# Altium schematic symbol library kmilo17pet-LT_PMIC_LT.SchLib: 2252 symbols (part 40 of 124)
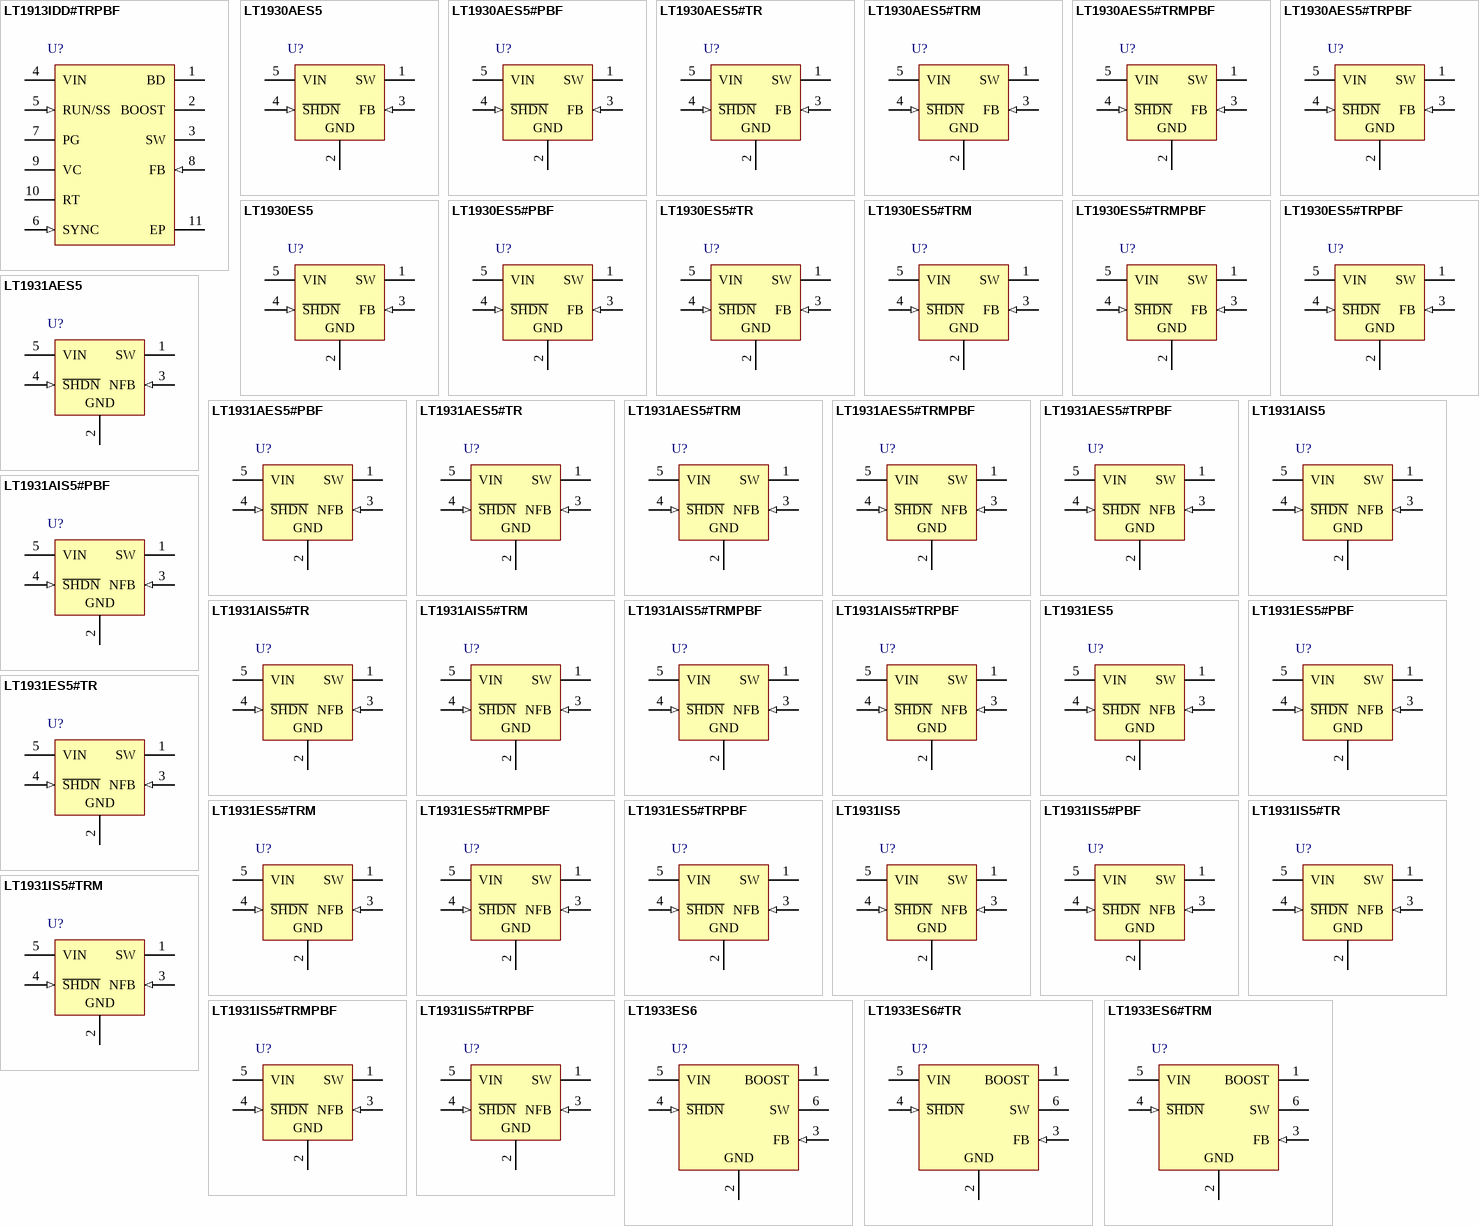
[diagram p110: symbols LT1913IDD#TRPBF to LT1933ES6#TRM]

## LT1930AES5#TRMPBF
designator U?
1 A, 2.2 MHz, Step-Up DC/DC Converter, 5-pin SOT23 (S5-5), -40 to 85 degC, Pb-Free, Mini Tape and Reel; Manufacturer: Linear Technology; PartNumber: LT1930AES5#TRMPBF; Number of Outputs: 1; PackageReference: S5-5; PackageDescription: 5-Pin Plastic TSOT-23, Body 1.63 x 2.90 mm, Pitch 0.95 mm; Supplier 1: Digi-Key; Supplier Part Number 1: LT1930AES5#TRMPBFTR-ND; RoHS: TRUE
footprint LT-S5-5-TSOT-23_N (SOT23, 5-Leads, Body 2.90x1.63mm, Pitch 0.95mm, IPC Medium Density)
footprint LT-S5-5-TSOT-23_L (SOT23, 5-Leads, Body 2.90x1.63mm, Pitch 0.95mm, IPC High Density)
footprint LT-S5-5-TSOT-23_M (SOT23, 5-Leads, Body 2.90x1.63mm, Pitch 0.95mm, IPC Low Density)
pins: 1 SW (power) "Switch Pin. Connect inductor/diode here. Minimize trace at this pin to reduce EMI.", 2 GND (power) "Ground Pin. Tie directly to local ground plane.", 3 FB (in) "Feedback Pin.", 4 ~{SHDN} (in) "Shutdown Pin.", 5 VIN (power) "Input Supply Pin. Must be locally bypassed."

## LT1930AES5#TRPBF
designator U?
1 A, 2.2 MHz, Step-Up DC/DC Converter, 5-pin SOT23 (S5-5), -40 to 85 degC, Pb-Free, Tape and Reel; Manufacturer: Linear Technology; PartNumber: LT1930AES5#TRPBF; Number of Outputs: 1; PackageReference: S5-5; PackageDescription: 5-Pin Plastic TSOT-23, Body 1.63 x 2.90 mm, Pitch 0.95 mm; Supplier 1: Digi-Key; Supplier Part Number 1: LT1930AES5#TRPBF-ND; RoHS: TRUE
footprint LT-S5-5-TSOT-23_N (SOT23, 5-Leads, Body 2.90x1.63mm, Pitch 0.95mm, IPC Medium Density)
footprint LT-S5-5-TSOT-23_L (SOT23, 5-Leads, Body 2.90x1.63mm, Pitch 0.95mm, IPC High Density)
footprint LT-S5-5-TSOT-23_M (SOT23, 5-Leads, Body 2.90x1.63mm, Pitch 0.95mm, IPC Low Density)
pins: 1 SW (power) "Switch Pin. Connect inductor/diode here. Minimize trace at this pin to reduce EMI.", 2 GND (power) "Ground Pin. Tie directly to local ground plane.", 3 FB (in) "Feedback Pin.", 4 ~{SHDN} (in) "Shutdown Pin.", 5 VIN (power) "Input Supply Pin. Must be locally bypassed."

## LT1930ES5
designator U?
1 A, 1.2 MHz, Step-Up DC/DC Converter, 5-pin SOT23 (S5-5), -40 to 85 degC; Manufacturer: Linear Technology; PartNumber: LT1930ES5; Number of Outputs: 1; PackageReference: S5-5; PackageDescription: 5-Pin Plastic TSOT-23, Body 1.63 x 2.90 mm, Pitch 0.95 mm; RoHS: FALSE
footprint LT-S5-5-TSOT-23_N (SOT23, 5-Leads, Body 2.90x1.63mm, Pitch 0.95mm, IPC Medium Density)
footprint LT-S5-5-TSOT-23_L (SOT23, 5-Leads, Body 2.90x1.63mm, Pitch 0.95mm, IPC High Density)
footprint LT-S5-5-TSOT-23_M (SOT23, 5-Leads, Body 2.90x1.63mm, Pitch 0.95mm, IPC Low Density)
pins: 1 SW (power) "Switch Pin. Connect inductor/diode here. Minimize trace at this pin to reduce EMI.", 2 GND (power) "Ground Pin. Tie directly to local ground plane.", 3 FB (in) "Feedback Pin.", 4 ~{SHDN} (in) "Shutdown Pin.", 5 VIN (power) "Input Supply Pin. Must be locally bypassed."

## LT1930ES5#PBF
designator U?
1 A, 1.2 MHz, Step-Up DC/DC Converter, 5-pin SOT23 (S5-5), -40 to 85 degC, Pb-Free; Manufacturer: Linear Technology; PartNumber: LT1930ES5#PBF; Number of Outputs: 1; PackageReference: S5-5; PackageDescription: 5-Pin Plastic TSOT-23, Body 1.63 x 2.90 mm, Pitch 0.95 mm; Supplier 1: Farnell; Supplier Part Number 1: 1531504; RoHS: TRUE
footprint LT-S5-5-TSOT-23_N (SOT23, 5-Leads, Body 2.90x1.63mm, Pitch 0.95mm, IPC Medium Density)
footprint LT-S5-5-TSOT-23_L (SOT23, 5-Leads, Body 2.90x1.63mm, Pitch 0.95mm, IPC High Density)
footprint LT-S5-5-TSOT-23_M (SOT23, 5-Leads, Body 2.90x1.63mm, Pitch 0.95mm, IPC Low Density)
pins: 1 SW (power) "Switch Pin. Connect inductor/diode here. Minimize trace at this pin to reduce EMI.", 2 GND (power) "Ground Pin. Tie directly to local ground plane.", 3 FB (in) "Feedback Pin.", 4 ~{SHDN} (in) "Shutdown Pin.", 5 VIN (power) "Input Supply Pin. Must be locally bypassed."

## LT1930ES5#TR
designator U?
1 A, 1.2 MHz, Step-Up DC/DC Converter, 5-pin SOT23 (S5-5), -40 to 85 degC, Tape and Reel; Manufacturer: Linear Technology; PartNumber: LT1930ES5#TR; Number of Outputs: 1; PackageReference: S5-5; PackageDescription: 5-Pin Plastic TSOT-23, Body 1.63 x 2.90 mm, Pitch 0.95 mm; Supplier 1: Digi-Key; Supplier Part Number 1: LT1930ES5TR-ND; RoHS: FALSE
footprint LT-S5-5-TSOT-23_N (SOT23, 5-Leads, Body 2.90x1.63mm, Pitch 0.95mm, IPC Medium Density)
footprint LT-S5-5-TSOT-23_L (SOT23, 5-Leads, Body 2.90x1.63mm, Pitch 0.95mm, IPC High Density)
footprint LT-S5-5-TSOT-23_M (SOT23, 5-Leads, Body 2.90x1.63mm, Pitch 0.95mm, IPC Low Density)
pins: 1 SW (power) "Switch Pin. Connect inductor/diode here. Minimize trace at this pin to reduce EMI.", 2 GND (power) "Ground Pin. Tie directly to local ground plane.", 3 FB (in) "Feedback Pin.", 4 ~{SHDN} (in) "Shutdown Pin.", 5 VIN (power) "Input Supply Pin. Must be locally bypassed."

## LT1930ES5#TRM
designator U?
1 A, 1.2 MHz, Step-Up DC/DC Converter, 5-pin SOT23 (S5-5), -40 to 85 degC, Mini Tape and Reel; Manufacturer: Linear Technology; PartNumber: LT1930ES5#TRM; Number of Outputs: 1; PackageReference: S5-5; PackageDescription: 5-Pin Plastic TSOT-23, Body 1.63 x 2.90 mm, Pitch 0.95 mm; Supplier 1: Digi-Key; Supplier Part Number 1: LT1930ES5#TRMTR-ND; RoHS: FALSE
footprint LT-S5-5-TSOT-23_N (SOT23, 5-Leads, Body 2.90x1.63mm, Pitch 0.95mm, IPC Medium Density)
footprint LT-S5-5-TSOT-23_L (SOT23, 5-Leads, Body 2.90x1.63mm, Pitch 0.95mm, IPC High Density)
footprint LT-S5-5-TSOT-23_M (SOT23, 5-Leads, Body 2.90x1.63mm, Pitch 0.95mm, IPC Low Density)
pins: 1 SW (power) "Switch Pin. Connect inductor/diode here. Minimize trace at this pin to reduce EMI.", 2 GND (power) "Ground Pin. Tie directly to local ground plane.", 3 FB (in) "Feedback Pin.", 4 ~{SHDN} (in) "Shutdown Pin.", 5 VIN (power) "Input Supply Pin. Must be locally bypassed."

## LT1930ES5#TRMPBF
designator U?
1 A, 1.2 MHz, Step-Up DC/DC Converter, 5-pin SOT23 (S5-5), -40 to 85 degC, Pb-Free, Mini Tape and Reel; Manufacturer: Linear Technology; PartNumber: LT1930ES5#TRMPBF; Number of Outputs: 1; PackageReference: S5-5; PackageDescription: 5-Pin Plastic TSOT-23, Body 1.63 x 2.90 mm, Pitch 0.95 mm; Supplier 1: Digi-Key; Supplier Part Number 1: LT1930ES5#TRMPBFTR-ND; RoHS: TRUE
footprint LT-S5-5-TSOT-23_N (SOT23, 5-Leads, Body 2.90x1.63mm, Pitch 0.95mm, IPC Medium Density)
footprint LT-S5-5-TSOT-23_L (SOT23, 5-Leads, Body 2.90x1.63mm, Pitch 0.95mm, IPC High Density)
footprint LT-S5-5-TSOT-23_M (SOT23, 5-Leads, Body 2.90x1.63mm, Pitch 0.95mm, IPC Low Density)
pins: 1 SW (power) "Switch Pin. Connect inductor/diode here. Minimize trace at this pin to reduce EMI.", 2 GND (power) "Ground Pin. Tie directly to local ground plane.", 3 FB (in) "Feedback Pin.", 4 ~{SHDN} (in) "Shutdown Pin.", 5 VIN (power) "Input Supply Pin. Must be locally bypassed."

## LT1930ES5#TRPBF
designator U?
1 A, 1.2 MHz, Step-Up DC/DC Converter, 5-pin SOT23 (S5-5), -40 to 85 degC, Pb-Free, Tape and Reel; Manufacturer: Linear Technology; PartNumber: LT1930ES5#TRPBF; Number of Outputs: 1; PackageReference: S5-5; PackageDescription: 5-Pin Plastic TSOT-23, Body 1.63 x 2.90 mm, Pitch 0.95 mm; Supplier 1: Digi-Key; Supplier Part Number 1: LT1930ES5#TRPBF-ND; RoHS: TRUE
footprint LT-S5-5-TSOT-23_N (SOT23, 5-Leads, Body 2.90x1.63mm, Pitch 0.95mm, IPC Medium Density)
footprint LT-S5-5-TSOT-23_L (SOT23, 5-Leads, Body 2.90x1.63mm, Pitch 0.95mm, IPC High Density)
footprint LT-S5-5-TSOT-23_M (SOT23, 5-Leads, Body 2.90x1.63mm, Pitch 0.95mm, IPC Low Density)
pins: 1 SW (power) "Switch Pin. Connect inductor/diode here. Minimize trace at this pin to reduce EMI.", 2 GND (power) "Ground Pin. Tie directly to local ground plane.", 3 FB (in) "Feedback Pin.", 4 ~{SHDN} (in) "Shutdown Pin.", 5 VIN (power) "Input Supply Pin. Must be locally bypassed."

## LT1931AES5
designator U?
1.2 MHz Inverting DC/DC Converter MAX, 5-pin SOT23 (S5-5), -40 to 85 degC; Manufacturer: Linear Technology; PartNumber: LT1931AES5; Number of Outputs: 1; PackageReference: S5-5; PackageDescription: 5-Pin Plastic TSOT-23, Body 1.63 x 2.90 mm, Pitch 0.95 mm; RoHS: FALSE
footprint LT-S5-5-TSOT-23_N (SOT23, 5-Leads, Body 2.90x1.63mm, Pitch 0.95mm, IPC Medium Density)
footprint LT-S5-5-TSOT-23_L (SOT23, 5-Leads, Body 2.90x1.63mm, Pitch 0.95mm, IPC High Density)
footprint LT-S5-5-TSOT-23_M (SOT23, 5-Leads, Body 2.90x1.63mm, Pitch 0.95mm, IPC Low Density)
pins: 1 SW (power) "Switch Pin. Minimize trace area at this pin to keep EMI down.", 2 GND (power) "Ground. Tie directly to local ground plane.", 3 NFB (in) "Negative Feedback Pin.", 4 ~{SHDN} (in) "Shutdown Pin.", 5 VIN (power) "Input Supply Pin. Must be locally bypassed."

## LT1931AES5#PBF
designator U?
1.2 MHz Inverting DC/DC Converter MAX, 5-pin SOT23 (S5-5), -40 to 85 degC, Pb-Free; Manufacturer: Linear Technology; PartNumber: LT1931AES5#PBF; Number of Outputs: 1; PackageReference: S5-5; PackageDescription: 5-Pin Plastic TSOT-23, Body 1.63 x 2.90 mm, Pitch 0.95 mm; Supplier 1: Farnell; Supplier Part Number 1: 1531506; RoHS: TRUE
footprint LT-S5-5-TSOT-23_N (SOT23, 5-Leads, Body 2.90x1.63mm, Pitch 0.95mm, IPC Medium Density)
footprint LT-S5-5-TSOT-23_L (SOT23, 5-Leads, Body 2.90x1.63mm, Pitch 0.95mm, IPC High Density)
footprint LT-S5-5-TSOT-23_M (SOT23, 5-Leads, Body 2.90x1.63mm, Pitch 0.95mm, IPC Low Density)
pins: 1 SW (power) "Switch Pin. Minimize trace area at this pin to keep EMI down.", 2 GND (power) "Ground. Tie directly to local ground plane.", 3 NFB (in) "Negative Feedback Pin.", 4 ~{SHDN} (in) "Shutdown Pin.", 5 VIN (power) "Input Supply Pin. Must be locally bypassed."

## LT1931AES5#TR
designator U?
1.2 MHz Inverting DC/DC Converter MAX, 5-pin SOT23 (S5-5), -40 to 85 degC, Tape and Reel; Manufacturer: Linear Technology; PartNumber: LT1931AES5#TR; Number of Outputs: 1; PackageReference: S5-5; PackageDescription: 5-Pin Plastic TSOT-23, Body 1.63 x 2.90 mm, Pitch 0.95 mm; Supplier 1: Digi-Key; Supplier Part Number 1: LT1931AES5TR-ND; RoHS: FALSE
footprint LT-S5-5-TSOT-23_N (SOT23, 5-Leads, Body 2.90x1.63mm, Pitch 0.95mm, IPC Medium Density)
footprint LT-S5-5-TSOT-23_L (SOT23, 5-Leads, Body 2.90x1.63mm, Pitch 0.95mm, IPC High Density)
footprint LT-S5-5-TSOT-23_M (SOT23, 5-Leads, Body 2.90x1.63mm, Pitch 0.95mm, IPC Low Density)
pins: 1 SW (power) "Switch Pin. Minimize trace area at this pin to keep EMI down.", 2 GND (power) "Ground. Tie directly to local ground plane.", 3 NFB (in) "Negative Feedback Pin.", 4 ~{SHDN} (in) "Shutdown Pin.", 5 VIN (power) "Input Supply Pin. Must be locally bypassed."

## LT1931AES5#TRM
designator U?
1.2 MHz Inverting DC/DC Converter MAX, 5-pin SOT23 (S5-5), -40 to 85 degC, Mini Tape and Reel; Manufacturer: Linear Technology; PartNumber: LT1931AES5#TRM; Number of Outputs: 1; PackageReference: S5-5; PackageDescription: 5-Pin Plastic TSOT-23, Body 1.63 x 2.90 mm, Pitch 0.95 mm; Supplier 1: Digi-Key; Supplier Part Number 1: LT1931AES5#TRMTR-ND; RoHS: FALSE
footprint LT-S5-5-TSOT-23_N (SOT23, 5-Leads, Body 2.90x1.63mm, Pitch 0.95mm, IPC Medium Density)
footprint LT-S5-5-TSOT-23_L (SOT23, 5-Leads, Body 2.90x1.63mm, Pitch 0.95mm, IPC High Density)
footprint LT-S5-5-TSOT-23_M (SOT23, 5-Leads, Body 2.90x1.63mm, Pitch 0.95mm, IPC Low Density)
pins: 1 SW (power) "Switch Pin. Minimize trace area at this pin to keep EMI down.", 2 GND (power) "Ground. Tie directly to local ground plane.", 3 NFB (in) "Negative Feedback Pin.", 4 ~{SHDN} (in) "Shutdown Pin.", 5 VIN (power) "Input Supply Pin. Must be locally bypassed."

## LT1931AES5#TRMPBF
designator U?
1.2 MHz Inverting DC/DC Converter MAX, 5-pin SOT23 (S5-5), -40 to 85 degC, Pb-Free, Mini Tape and Reel; Manufacturer: Linear Technology; PartNumber: LT1931AES5#TRMPBF; Number of Outputs: 1; PackageReference: S5-5; PackageDescription: 5-Pin Plastic TSOT-23, Body 1.63 x 2.90 mm, Pitch 0.95 mm; Supplier 1: Digi-Key; Supplier Part Number 1: LT1931AES5#TRMPBFTR-ND; RoHS: TRUE
footprint LT-S5-5-TSOT-23_N (SOT23, 5-Leads, Body 2.90x1.63mm, Pitch 0.95mm, IPC Medium Density)
footprint LT-S5-5-TSOT-23_L (SOT23, 5-Leads, Body 2.90x1.63mm, Pitch 0.95mm, IPC High Density)
footprint LT-S5-5-TSOT-23_M (SOT23, 5-Leads, Body 2.90x1.63mm, Pitch 0.95mm, IPC Low Density)
pins: 1 SW (power) "Switch Pin. Minimize trace area at this pin to keep EMI down.", 2 GND (power) "Ground. Tie directly to local ground plane.", 3 NFB (in) "Negative Feedback Pin.", 4 ~{SHDN} (in) "Shutdown Pin.", 5 VIN (power) "Input Supply Pin. Must be locally bypassed."

## LT1931AES5#TRPBF
designator U?
1.2 MHz Inverting DC/DC Converter MAX, 5-pin SOT23 (S5-5), -40 to 85 degC, Pb-Free, Tape and Reel; Manufacturer: Linear Technology; PartNumber: LT1931AES5#TRPBF; Number of Outputs: 1; PackageReference: S5-5; PackageDescription: 5-Pin Plastic TSOT-23, Body 1.63 x 2.90 mm, Pitch 0.95 mm; Supplier 1: Digi-Key; Supplier Part Number 1: LT1931AES5#TRPBF-ND; RoHS: TRUE
footprint LT-S5-5-TSOT-23_N (SOT23, 5-Leads, Body 2.90x1.63mm, Pitch 0.95mm, IPC Medium Density)
footprint LT-S5-5-TSOT-23_L (SOT23, 5-Leads, Body 2.90x1.63mm, Pitch 0.95mm, IPC High Density)
footprint LT-S5-5-TSOT-23_M (SOT23, 5-Leads, Body 2.90x1.63mm, Pitch 0.95mm, IPC Low Density)
pins: 1 SW (power) "Switch Pin. Minimize trace area at this pin to keep EMI down.", 2 GND (power) "Ground. Tie directly to local ground plane.", 3 NFB (in) "Negative Feedback Pin.", 4 ~{SHDN} (in) "Shutdown Pin.", 5 VIN (power) "Input Supply Pin. Must be locally bypassed."

## LT1931AIS5
designator U?
1.2 MHz Inverting DC/DC Converter MAX, 5-pin SOT23 (S5-5), -40 to 85 degC; Manufacturer: Linear Technology; PartNumber: LT1931AIS5; Number of Outputs: 1; PackageReference: S5-5; PackageDescription: 5-Pin Plastic TSOT-23, Body 1.63 x 2.90 mm, Pitch 0.95 mm; Supplier 1: Newark; Supplier Part Number 1: 24W8901; RoHS: FALSE
footprint LT-S5-5-TSOT-23_N (SOT23, 5-Leads, Body 2.90x1.63mm, Pitch 0.95mm, IPC Medium Density)
footprint LT-S5-5-TSOT-23_L (SOT23, 5-Leads, Body 2.90x1.63mm, Pitch 0.95mm, IPC High Density)
footprint LT-S5-5-TSOT-23_M (SOT23, 5-Leads, Body 2.90x1.63mm, Pitch 0.95mm, IPC Low Density)
pins: 1 SW (power) "Switch Pin. Minimize trace area at this pin to keep EMI down.", 2 GND (power) "Ground. Tie directly to local ground plane.", 3 NFB (in) "Negative Feedback Pin.", 4 ~{SHDN} (in) "Shutdown Pin.", 5 VIN (power) "Input Supply Pin. Must be locally bypassed."

## LT1931AIS5#PBF
designator U?
1.2 MHz Inverting DC/DC Converter MAX, 5-pin SOT23 (S5-5), -40 to 85 degC, Pb-Free; Manufacturer: Linear Technology; PartNumber: LT1931AIS5#PBF; Number of Outputs: 1; PackageReference: S5-5; PackageDescription: 5-Pin Plastic TSOT-23, Body 1.63 x 2.90 mm, Pitch 0.95 mm; Supplier 1: Farnell; Supplier Part Number 1: 2294891; RoHS: TRUE
footprint LT-S5-5-TSOT-23_N (SOT23, 5-Leads, Body 2.90x1.63mm, Pitch 0.95mm, IPC Medium Density)
footprint LT-S5-5-TSOT-23_L (SOT23, 5-Leads, Body 2.90x1.63mm, Pitch 0.95mm, IPC High Density)
footprint LT-S5-5-TSOT-23_M (SOT23, 5-Leads, Body 2.90x1.63mm, Pitch 0.95mm, IPC Low Density)
pins: 1 SW (power) "Switch Pin. Minimize trace area at this pin to keep EMI down.", 2 GND (power) "Ground. Tie directly to local ground plane.", 3 NFB (in) "Negative Feedback Pin.", 4 ~{SHDN} (in) "Shutdown Pin.", 5 VIN (power) "Input Supply Pin. Must be locally bypassed."

## LT1931AIS5#TR
designator U?
1.2 MHz Inverting DC/DC Converter MAX, 5-pin SOT23 (S5-5), -40 to 85 degC, Tape and Reel; Manufacturer: Linear Technology; PartNumber: LT1931AIS5#TR; Number of Outputs: 1; PackageReference: S5-5; PackageDescription: 5-Pin Plastic TSOT-23, Body 1.63 x 2.90 mm, Pitch 0.95 mm; Supplier 1: Newark; Supplier Part Number 1: 57M7163; RoHS: FALSE
footprint LT-S5-5-TSOT-23_N (SOT23, 5-Leads, Body 2.90x1.63mm, Pitch 0.95mm, IPC Medium Density)
footprint LT-S5-5-TSOT-23_L (SOT23, 5-Leads, Body 2.90x1.63mm, Pitch 0.95mm, IPC High Density)
footprint LT-S5-5-TSOT-23_M (SOT23, 5-Leads, Body 2.90x1.63mm, Pitch 0.95mm, IPC Low Density)
pins: 1 SW (power) "Switch Pin. Minimize trace area at this pin to keep EMI down.", 2 GND (power) "Ground. Tie directly to local ground plane.", 3 NFB (in) "Negative Feedback Pin.", 4 ~{SHDN} (in) "Shutdown Pin.", 5 VIN (power) "Input Supply Pin. Must be locally bypassed."

## LT1931AIS5#TRM
designator U?
1.2 MHz Inverting DC/DC Converter MAX, 5-pin SOT23 (S5-5), -40 to 85 degC, Mini Tape and Reel; Manufacturer: Linear Technology; PartNumber: LT1931AIS5#TRM; Number of Outputs: 1; PackageReference: S5-5; PackageDescription: 5-Pin Plastic TSOT-23, Body 1.63 x 2.90 mm, Pitch 0.95 mm; Supplier 1: Newark; Supplier Part Number 1: 57M7164; RoHS: FALSE
footprint LT-S5-5-TSOT-23_N (SOT23, 5-Leads, Body 2.90x1.63mm, Pitch 0.95mm, IPC Medium Density)
footprint LT-S5-5-TSOT-23_L (SOT23, 5-Leads, Body 2.90x1.63mm, Pitch 0.95mm, IPC High Density)
footprint LT-S5-5-TSOT-23_M (SOT23, 5-Leads, Body 2.90x1.63mm, Pitch 0.95mm, IPC Low Density)
pins: 1 SW (power) "Switch Pin. Minimize trace area at this pin to keep EMI down.", 2 GND (power) "Ground. Tie directly to local ground plane.", 3 NFB (in) "Negative Feedback Pin.", 4 ~{SHDN} (in) "Shutdown Pin.", 5 VIN (power) "Input Supply Pin. Must be locally bypassed."

## LT1931AIS5#TRMPBF
designator U?
1.2 MHz Inverting DC/DC Converter MAX, 5-pin SOT23 (S5-5), -40 to 85 degC, Pb-Free, Mini Tape and Reel; Manufacturer: Linear Technology; PartNumber: LT1931AIS5#TRMPBF; Number of Outputs: 1; PackageReference: S5-5; PackageDescription: 5-Pin Plastic TSOT-23, Body 1.63 x 2.90 mm, Pitch 0.95 mm; Supplier 1: Digi-Key; Supplier Part Number 1: LT1931AIS5#TRMPBFTR-ND; RoHS: TRUE
footprint LT-S5-5-TSOT-23_N (SOT23, 5-Leads, Body 2.90x1.63mm, Pitch 0.95mm, IPC Medium Density)
footprint LT-S5-5-TSOT-23_L (SOT23, 5-Leads, Body 2.90x1.63mm, Pitch 0.95mm, IPC High Density)
footprint LT-S5-5-TSOT-23_M (SOT23, 5-Leads, Body 2.90x1.63mm, Pitch 0.95mm, IPC Low Density)
pins: 1 SW (power) "Switch Pin. Minimize trace area at this pin to keep EMI down.", 2 GND (power) "Ground. Tie directly to local ground plane.", 3 NFB (in) "Negative Feedback Pin.", 4 ~{SHDN} (in) "Shutdown Pin.", 5 VIN (power) "Input Supply Pin. Must be locally bypassed."

## LT1931AIS5#TRPBF
designator U?
1.2 MHz Inverting DC/DC Converter MAX, 5-pin SOT23 (S5-5), -40 to 85 degC, Pb-Free, Tape and Reel; Manufacturer: Linear Technology; PartNumber: LT1931AIS5#TRPBF; Number of Outputs: 1; PackageReference: S5-5; PackageDescription: 5-Pin Plastic TSOT-23, Body 1.63 x 2.90 mm, Pitch 0.95 mm; Supplier 1: Digi-Key; Supplier Part Number 1: LT1931AIS5#TRPBF-ND; RoHS: TRUE
footprint LT-S5-5-TSOT-23_N (SOT23, 5-Leads, Body 2.90x1.63mm, Pitch 0.95mm, IPC Medium Density)
footprint LT-S5-5-TSOT-23_L (SOT23, 5-Leads, Body 2.90x1.63mm, Pitch 0.95mm, IPC High Density)
footprint LT-S5-5-TSOT-23_M (SOT23, 5-Leads, Body 2.90x1.63mm, Pitch 0.95mm, IPC Low Density)
pins: 1 SW (power) "Switch Pin. Minimize trace area at this pin to keep EMI down.", 2 GND (power) "Ground. Tie directly to local ground plane.", 3 NFB (in) "Negative Feedback Pin.", 4 ~{SHDN} (in) "Shutdown Pin.", 5 VIN (power) "Input Supply Pin. Must be locally bypassed."

## LT1931ES5
designator U?
1.2 MHz Inverting DC/DC Converter MAX, 5-pin SOT23 (S5-5), -40 to 85 degC; Manufacturer: Linear Technology; PartNumber: LT1931ES5; Number of Outputs: 1; PackageReference: S5-5; PackageDescription: 5-Pin Plastic TSOT-23, Body 1.63 x 2.90 mm, Pitch 0.95 mm; RoHS: FALSE
footprint LT-S5-5-TSOT-23_N (SOT23, 5-Leads, Body 2.90x1.63mm, Pitch 0.95mm, IPC Medium Density)
footprint LT-S5-5-TSOT-23_L (SOT23, 5-Leads, Body 2.90x1.63mm, Pitch 0.95mm, IPC High Density)
footprint LT-S5-5-TSOT-23_M (SOT23, 5-Leads, Body 2.90x1.63mm, Pitch 0.95mm, IPC Low Density)
pins: 1 SW (power) "Switch Pin. Minimize trace area at this pin to keep EMI down.", 2 GND (power) "Ground. Tie directly to local ground plane.", 3 NFB (in) "Negative Feedback Pin.", 4 ~{SHDN} (in) "Shutdown Pin.", 5 VIN (power) "Input Supply Pin. Must be locally bypassed."

## LT1931ES5#PBF
designator U?
1.2 MHz Inverting DC/DC Converter MAX, 5-pin SOT23 (S5-5), -40 to 85 degC, Pb-Free; Manufacturer: Linear Technology; PartNumber: LT1931ES5#PBF; Number of Outputs: 1; PackageReference: S5-5; PackageDescription: 5-Pin Plastic TSOT-23, Body 1.63 x 2.90 mm, Pitch 0.95 mm; Supplier 1: Newark; Supplier Part Number 1: 61M3371; RoHS: TRUE
footprint LT-S5-5-TSOT-23_N (SOT23, 5-Leads, Body 2.90x1.63mm, Pitch 0.95mm, IPC Medium Density)
footprint LT-S5-5-TSOT-23_L (SOT23, 5-Leads, Body 2.90x1.63mm, Pitch 0.95mm, IPC High Density)
footprint LT-S5-5-TSOT-23_M (SOT23, 5-Leads, Body 2.90x1.63mm, Pitch 0.95mm, IPC Low Density)
pins: 1 SW (power) "Switch Pin. Minimize trace area at this pin to keep EMI down.", 2 GND (power) "Ground. Tie directly to local ground plane.", 3 NFB (in) "Negative Feedback Pin.", 4 ~{SHDN} (in) "Shutdown Pin.", 5 VIN (power) "Input Supply Pin. Must be locally bypassed."

## LT1931ES5#TR
designator U?
1.2 MHz Inverting DC/DC Converter MAX, 5-pin SOT23 (S5-5), -40 to 85 degC, Tape and Reel; Manufacturer: Linear Technology; PartNumber: LT1931ES5#TR; Number of Outputs: 1; PackageReference: S5-5; PackageDescription: 5-Pin Plastic TSOT-23, Body 1.63 x 2.90 mm, Pitch 0.95 mm; Supplier 1: Digi-Key; Supplier Part Number 1: LT1931ES5TR-ND; RoHS: FALSE
footprint LT-S5-5-TSOT-23_N (SOT23, 5-Leads, Body 2.90x1.63mm, Pitch 0.95mm, IPC Medium Density)
footprint LT-S5-5-TSOT-23_L (SOT23, 5-Leads, Body 2.90x1.63mm, Pitch 0.95mm, IPC High Density)
footprint LT-S5-5-TSOT-23_M (SOT23, 5-Leads, Body 2.90x1.63mm, Pitch 0.95mm, IPC Low Density)
pins: 1 SW (power) "Switch Pin. Minimize trace area at this pin to keep EMI down.", 2 GND (power) "Ground. Tie directly to local ground plane.", 3 NFB (in) "Negative Feedback Pin.", 4 ~{SHDN} (in) "Shutdown Pin.", 5 VIN (power) "Input Supply Pin. Must be locally bypassed."

## LT1931ES5#TRM
designator U?
1.2 MHz Inverting DC/DC Converter MAX, 5-pin SOT23 (S5-5), -40 to 85 degC, Mini Tape and Reel; Manufacturer: Linear Technology; PartNumber: LT1931ES5#TRM; Number of Outputs: 1; PackageReference: S5-5; PackageDescription: 5-Pin Plastic TSOT-23, Body 1.63 x 2.90 mm, Pitch 0.95 mm; Supplier 1: Digi-Key; Supplier Part Number 1: LT1931ES5#TRMTR-ND; RoHS: FALSE
footprint LT-S5-5-TSOT-23_N (SOT23, 5-Leads, Body 2.90x1.63mm, Pitch 0.95mm, IPC Medium Density)
footprint LT-S5-5-TSOT-23_L (SOT23, 5-Leads, Body 2.90x1.63mm, Pitch 0.95mm, IPC High Density)
footprint LT-S5-5-TSOT-23_M (SOT23, 5-Leads, Body 2.90x1.63mm, Pitch 0.95mm, IPC Low Density)
pins: 1 SW (power) "Switch Pin. Minimize trace area at this pin to keep EMI down.", 2 GND (power) "Ground. Tie directly to local ground plane.", 3 NFB (in) "Negative Feedback Pin.", 4 ~{SHDN} (in) "Shutdown Pin.", 5 VIN (power) "Input Supply Pin. Must be locally bypassed."

## LT1931ES5#TRMPBF
designator U?
1.2 MHz Inverting DC/DC Converter MAX, 5-pin SOT23 (S5-5), -40 to 85 degC, Pb-Free, Mini Tape and Reel; Manufacturer: Linear Technology; PartNumber: LT1931ES5#TRMPBF; Number of Outputs: 1; PackageReference: S5-5; PackageDescription: 5-Pin Plastic TSOT-23, Body 1.63 x 2.90 mm, Pitch 0.95 mm; Supplier 1: Digi-Key; Supplier Part Number 1: LT1931ES5#TRMPBFTR-ND; RoHS: TRUE
footprint LT-S5-5-TSOT-23_N (SOT23, 5-Leads, Body 2.90x1.63mm, Pitch 0.95mm, IPC Medium Density)
footprint LT-S5-5-TSOT-23_L (SOT23, 5-Leads, Body 2.90x1.63mm, Pitch 0.95mm, IPC High Density)
footprint LT-S5-5-TSOT-23_M (SOT23, 5-Leads, Body 2.90x1.63mm, Pitch 0.95mm, IPC Low Density)
pins: 1 SW (power) "Switch Pin. Minimize trace area at this pin to keep EMI down.", 2 GND (power) "Ground. Tie directly to local ground plane.", 3 NFB (in) "Negative Feedback Pin.", 4 ~{SHDN} (in) "Shutdown Pin.", 5 VIN (power) "Input Supply Pin. Must be locally bypassed."

## LT1931ES5#TRPBF
designator U?
1.2 MHz Inverting DC/DC Converter MAX, 5-pin SOT23 (S5-5), -40 to 85 degC, Pb-Free, Tape and Reel; Manufacturer: Linear Technology; PartNumber: LT1931ES5#TRPBF; Number of Outputs: 1; PackageReference: S5-5; PackageDescription: 5-Pin Plastic TSOT-23, Body 1.63 x 2.90 mm, Pitch 0.95 mm; Supplier 1: Digi-Key; Supplier Part Number 1: LT1931ES5#TRPBF-ND; RoHS: TRUE
footprint LT-S5-5-TSOT-23_N (SOT23, 5-Leads, Body 2.90x1.63mm, Pitch 0.95mm, IPC Medium Density)
footprint LT-S5-5-TSOT-23_L (SOT23, 5-Leads, Body 2.90x1.63mm, Pitch 0.95mm, IPC High Density)
footprint LT-S5-5-TSOT-23_M (SOT23, 5-Leads, Body 2.90x1.63mm, Pitch 0.95mm, IPC Low Density)
pins: 1 SW (power) "Switch Pin. Minimize trace area at this pin to keep EMI down.", 2 GND (power) "Ground. Tie directly to local ground plane.", 3 NFB (in) "Negative Feedback Pin.", 4 ~{SHDN} (in) "Shutdown Pin.", 5 VIN (power) "Input Supply Pin. Must be locally bypassed."

## LT1931IS5
designator U?
1.2 MHz Inverting DC/DC Converter MAX, 5-pin SOT23 (S5-5), -40 to 85 degC; Manufacturer: Linear Technology; PartNumber: LT1931IS5; Number of Outputs: 1; PackageReference: S5-5; PackageDescription: 5-Pin Plastic TSOT-23, Body 1.63 x 2.90 mm, Pitch 0.95 mm; Supplier 1: Newark; Supplier Part Number 1: 24W8895; RoHS: FALSE
footprint LT-S5-5-TSOT-23_N (SOT23, 5-Leads, Body 2.90x1.63mm, Pitch 0.95mm, IPC Medium Density)
footprint LT-S5-5-TSOT-23_L (SOT23, 5-Leads, Body 2.90x1.63mm, Pitch 0.95mm, IPC High Density)
footprint LT-S5-5-TSOT-23_M (SOT23, 5-Leads, Body 2.90x1.63mm, Pitch 0.95mm, IPC Low Density)
pins: 1 SW (power) "Switch Pin. Minimize trace area at this pin to keep EMI down.", 2 GND (power) "Ground. Tie directly to local ground plane.", 3 NFB (in) "Negative Feedback Pin.", 4 ~{SHDN} (in) "Shutdown Pin.", 5 VIN (power) "Input Supply Pin. Must be locally bypassed."

## LT1931IS5#PBF
designator U?
1.2 MHz Inverting DC/DC Converter MAX, 5-pin SOT23 (S5-5), -40 to 85 degC, Pb-Free; Manufacturer: Linear Technology; PartNumber: LT1931IS5#PBF; Number of Outputs: 1; PackageReference: S5-5; PackageDescription: 5-Pin Plastic TSOT-23, Body 1.63 x 2.90 mm, Pitch 0.95 mm; RoHS: TRUE
footprint LT-S5-5-TSOT-23_N (SOT23, 5-Leads, Body 2.90x1.63mm, Pitch 0.95mm, IPC Medium Density)
footprint LT-S5-5-TSOT-23_L (SOT23, 5-Leads, Body 2.90x1.63mm, Pitch 0.95mm, IPC High Density)
footprint LT-S5-5-TSOT-23_M (SOT23, 5-Leads, Body 2.90x1.63mm, Pitch 0.95mm, IPC Low Density)
pins: 1 SW (power) "Switch Pin. Minimize trace area at this pin to keep EMI down.", 2 GND (power) "Ground. Tie directly to local ground plane.", 3 NFB (in) "Negative Feedback Pin.", 4 ~{SHDN} (in) "Shutdown Pin.", 5 VIN (power) "Input Supply Pin. Must be locally bypassed."

## LT1931IS5#TR
designator U?
1.2 MHz Inverting DC/DC Converter MAX, 5-pin SOT23 (S5-5), -40 to 85 degC, Tape and Reel; Manufacturer: Linear Technology; PartNumber: LT1931IS5#TR; Number of Outputs: 1; PackageReference: S5-5; PackageDescription: 5-Pin Plastic TSOT-23, Body 1.63 x 2.90 mm, Pitch 0.95 mm; RoHS: FALSE
footprint LT-S5-5-TSOT-23_N (SOT23, 5-Leads, Body 2.90x1.63mm, Pitch 0.95mm, IPC Medium Density)
footprint LT-S5-5-TSOT-23_L (SOT23, 5-Leads, Body 2.90x1.63mm, Pitch 0.95mm, IPC High Density)
footprint LT-S5-5-TSOT-23_M (SOT23, 5-Leads, Body 2.90x1.63mm, Pitch 0.95mm, IPC Low Density)
pins: 1 SW (power) "Switch Pin. Minimize trace area at this pin to keep EMI down.", 2 GND (power) "Ground. Tie directly to local ground plane.", 3 NFB (in) "Negative Feedback Pin.", 4 ~{SHDN} (in) "Shutdown Pin.", 5 VIN (power) "Input Supply Pin. Must be locally bypassed."

## LT1931IS5#TRM
designator U?
1.2 MHz Inverting DC/DC Converter MAX, 5-pin SOT23 (S5-5), -40 to 85 degC, Mini Tape and Reel; Manufacturer: Linear Technology; PartNumber: LT1931IS5#TRM; Number of Outputs: 1; PackageReference: S5-5; PackageDescription: 5-Pin Plastic TSOT-23, Body 1.63 x 2.90 mm, Pitch 0.95 mm; RoHS: FALSE
footprint LT-S5-5-TSOT-23_N (SOT23, 5-Leads, Body 2.90x1.63mm, Pitch 0.95mm, IPC Medium Density)
footprint LT-S5-5-TSOT-23_L (SOT23, 5-Leads, Body 2.90x1.63mm, Pitch 0.95mm, IPC High Density)
footprint LT-S5-5-TSOT-23_M (SOT23, 5-Leads, Body 2.90x1.63mm, Pitch 0.95mm, IPC Low Density)
pins: 1 SW (power) "Switch Pin. Minimize trace area at this pin to keep EMI down.", 2 GND (power) "Ground. Tie directly to local ground plane.", 3 NFB (in) "Negative Feedback Pin.", 4 ~{SHDN} (in) "Shutdown Pin.", 5 VIN (power) "Input Supply Pin. Must be locally bypassed."

## LT1931IS5#TRMPBF
designator U?
1.2 MHz Inverting DC/DC Converter MAX, 5-pin SOT23 (S5-5), -40 to 85 degC, Pb-Free, Mini Tape and Reel; Manufacturer: Linear Technology; PartNumber: LT1931IS5#TRMPBF; Number of Outputs: 1; PackageReference: S5-5; PackageDescription: 5-Pin Plastic TSOT-23, Body 1.63 x 2.90 mm, Pitch 0.95 mm; Supplier 1: Digi-Key; Supplier Part Number 1: LT1931IS5#TRMPBFTR-ND; RoHS: TRUE
footprint LT-S5-5-TSOT-23_N (SOT23, 5-Leads, Body 2.90x1.63mm, Pitch 0.95mm, IPC Medium Density)
footprint LT-S5-5-TSOT-23_L (SOT23, 5-Leads, Body 2.90x1.63mm, Pitch 0.95mm, IPC High Density)
footprint LT-S5-5-TSOT-23_M (SOT23, 5-Leads, Body 2.90x1.63mm, Pitch 0.95mm, IPC Low Density)
pins: 1 SW (power) "Switch Pin. Minimize trace area at this pin to keep EMI down.", 2 GND (power) "Ground. Tie directly to local ground plane.", 3 NFB (in) "Negative Feedback Pin.", 4 ~{SHDN} (in) "Shutdown Pin.", 5 VIN (power) "Input Supply Pin. Must be locally bypassed."

## LT1931IS5#TRPBF
designator U?
1.2 MHz Inverting DC/DC Converter MAX, 5-pin SOT23 (S5-5), -40 to 85 degC, Pb-Free, Tape and Reel; Manufacturer: Linear Technology; PartNumber: LT1931IS5#TRPBF; Number of Outputs: 1; PackageReference: S5-5; PackageDescription: 5-Pin Plastic TSOT-23, Body 1.63 x 2.90 mm, Pitch 0.95 mm; Supplier 1: Digi-Key; Supplier Part Number 1: LT1931IS5#TRPBF-ND; RoHS: TRUE
footprint LT-S5-5-TSOT-23_N (SOT23, 5-Leads, Body 2.90x1.63mm, Pitch 0.95mm, IPC Medium Density)
footprint LT-S5-5-TSOT-23_L (SOT23, 5-Leads, Body 2.90x1.63mm, Pitch 0.95mm, IPC High Density)
footprint LT-S5-5-TSOT-23_M (SOT23, 5-Leads, Body 2.90x1.63mm, Pitch 0.95mm, IPC Low Density)
pins: 1 SW (power) "Switch Pin. Minimize trace area at this pin to keep EMI down.", 2 GND (power) "Ground. Tie directly to local ground plane.", 3 NFB (in) "Negative Feedback Pin.", 4 ~{SHDN} (in) "Shutdown Pin.", 5 VIN (power) "Input Supply Pin. Must be locally bypassed."

## LT1933ES6
designator U?
600 mA, 500 kHz Step-Down Switching Regulator, 6-pin SOT23 (S6-6), -40 to 85 degC; Manufacturer: Linear Technology; PartNumber: LT1933ES6; Number of Outputs: 1; PackageReference: S6-6; PackageDescription: 6-Pin Plastic SOT-23, Body 1.625 x 2.9 mm, Pitch 0.95 mm; RoHS: FALSE
footprint LT-S6-6-SOT-23_N (SOT23, 6-Leads, Body 3x1.75mm, Pitch 0.95mm, IPC Medium Density)
footprint LT-S6-6-SOT-23_L (SOT23, 6-Leads, Body 3x1.75mm, Pitch 0.95mm, IPC High Density)
footprint LT-S6-6-SOT-23_M (SOT23, 6-Leads, Body 3x1.75mm, Pitch 0.95mm, IPC Low Density)
pins: 1 BOOST "The BOOST pin is used to provide a drive voltage, higher than the input voltage, to the internal bipolar NPN power switch.", 2 GND (power), 3 FB (in), 4 ~{SHDN} (in), 5 VIN (power), 6 SW (power) "The SW pin is the output of the internal power switch. Connect this pin to the inductor, catch diode and boost capacitor."

## LT1933ES6#TR
designator U?
600 mA, 500 kHz Step-Down Switching Regulator, 6-pin SOT23 (S6-6), -40 to 85 degC, Tape and Reel; Manufacturer: Linear Technology; PartNumber: LT1933ES6#TR; Number of Outputs: 1; PackageReference: S6-6; PackageDescription: 6-Pin Plastic SOT-23, Body 1.625 x 2.9 mm, Pitch 0.95 mm; Supplier 1: Digi-Key; Supplier Part Number 1: LT1933ES6#TR-ND; RoHS: FALSE
footprint LT-S6-6-SOT-23_N (SOT23, 6-Leads, Body 3x1.75mm, Pitch 0.95mm, IPC Medium Density)
footprint LT-S6-6-SOT-23_L (SOT23, 6-Leads, Body 3x1.75mm, Pitch 0.95mm, IPC High Density)
footprint LT-S6-6-SOT-23_M (SOT23, 6-Leads, Body 3x1.75mm, Pitch 0.95mm, IPC Low Density)
pins: 1 BOOST "The BOOST pin is used to provide a drive voltage, higher than the input voltage, to the internal bipolar NPN power switch.", 2 GND (power), 3 FB (in), 4 ~{SHDN} (in), 5 VIN (power), 6 SW (power) "The SW pin is the output of the internal power switch. Connect this pin to the inductor, catch diode and boost capacitor."

## LT1933ES6#TRM
designator U?
600 mA, 500 kHz Step-Down Switching Regulator, 6-pin SOT23 (S6-6), -40 to 85 degC, Mini Tape and Reel; Manufacturer: Linear Technology; PartNumber: LT1933ES6#TRM; Number of Outputs: 1; PackageReference: S6-6; PackageDescription: 6-Pin Plastic SOT-23, Body 1.625 x 2.9 mm, Pitch 0.95 mm; Supplier 1: Digi-Key; Supplier Part Number 1: LT1933ES6#TRM-ND; RoHS: FALSE
footprint LT-S6-6-SOT-23_N (SOT23, 6-Leads, Body 3x1.75mm, Pitch 0.95mm, IPC Medium Density)
footprint LT-S6-6-SOT-23_L (SOT23, 6-Leads, Body 3x1.75mm, Pitch 0.95mm, IPC High Density)
footprint LT-S6-6-SOT-23_M (SOT23, 6-Leads, Body 3x1.75mm, Pitch 0.95mm, IPC Low Density)
pins: 1 BOOST "The BOOST pin is used to provide a drive voltage, higher than the input voltage, to the internal bipolar NPN power switch.", 2 GND (power), 3 FB (in), 4 ~{SHDN} (in), 5 VIN (power), 6 SW (power) "The SW pin is the output of the internal power switch. Connect this pin to the inductor, catch diode and boost capacitor."

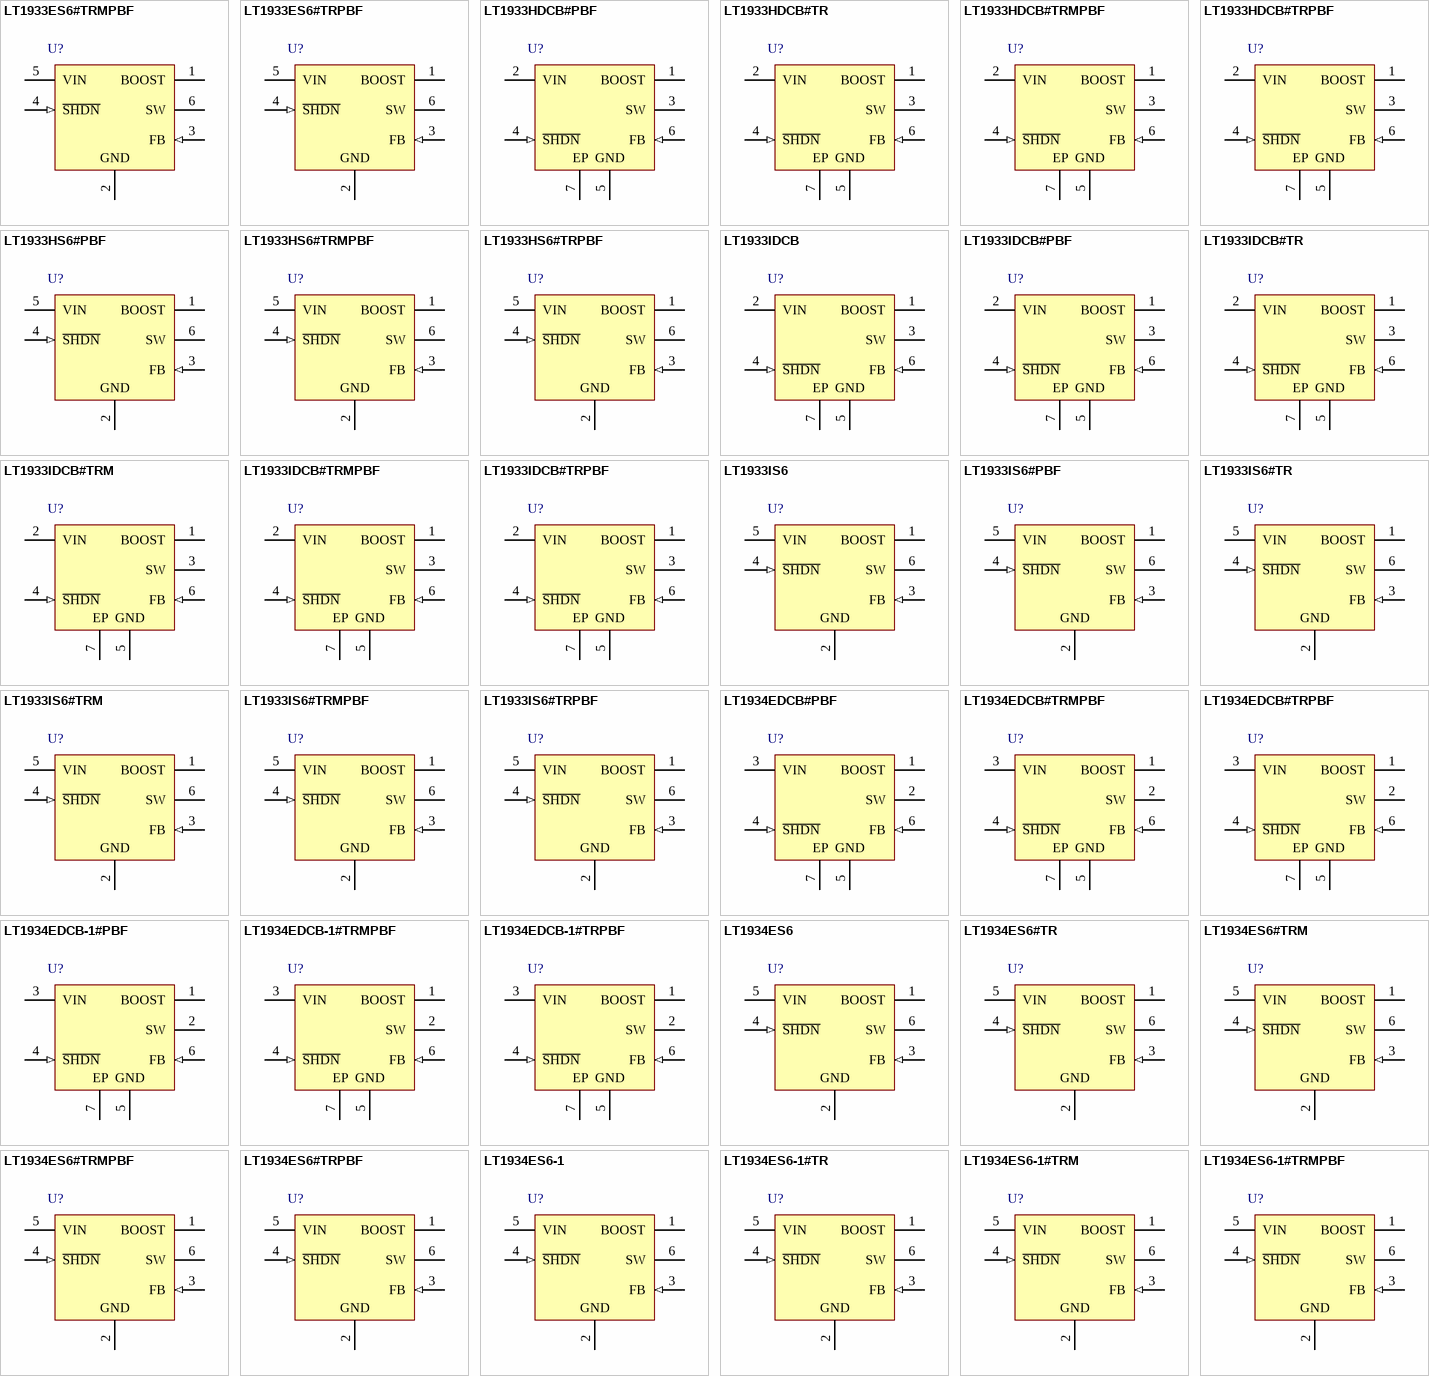
[diagram p25: symbols LT1933ES6#TRMPBF to LT1934ES6-1#TRMPBF]

## LT1933ES6#TRMPBF
designator U?
600 mA, 500 kHz Step-Down Switching Regulator, 6-pin SOT23 (S6-6), -40 to 85 degC, Pb-Free, Mini Tape and Reel; Manufacturer: Linear Technology; PartNumber: LT1933ES6#TRMPBF; Number of Outputs: 1; PackageReference: S6-6; PackageDescription: 6-Pin Plastic SOT-23, Body 1.625 x 2.9 mm, Pitch 0.95 mm; Supplier 1: Digi-Key; Supplier Part Number 1: LT1933ES6#TRMPBFTR-ND; RoHS: TRUE
footprint LT-S6-6-SOT-23_N (SOT23, 6-Leads, Body 3x1.75mm, Pitch 0.95mm, IPC Medium Density)
footprint LT-S6-6-SOT-23_L (SOT23, 6-Leads, Body 3x1.75mm, Pitch 0.95mm, IPC High Density)
footprint LT-S6-6-SOT-23_M (SOT23, 6-Leads, Body 3x1.75mm, Pitch 0.95mm, IPC Low Density)
pins: 1 BOOST "The BOOST pin is used to provide a drive voltage, higher than the input voltage, to the internal bipolar NPN power switch.", 2 GND (power), 3 FB (in), 4 ~{SHDN} (in), 5 VIN (power), 6 SW (power) "The SW pin is the output of the internal power switch. Connect this pin to the inductor, catch diode and boost capacitor."

## LT1933ES6#TRPBF
designator U?
600 mA, 500 kHz Step-Down Switching Regulator, 6-pin SOT23 (S6-6), -40 to 85 degC, Pb-Free, Tape and Reel; Manufacturer: Linear Technology; PartNumber: LT1933ES6#TRPBF; Number of Outputs: 1; PackageReference: S6-6; PackageDescription: 6-Pin Plastic SOT-23, Body 1.625 x 2.9 mm, Pitch 0.95 mm; Supplier 1: Digi-Key; Supplier Part Number 1: LT1933ES6#TRPBF-ND; RoHS: TRUE
footprint LT-S6-6-SOT-23_N (SOT23, 6-Leads, Body 3x1.75mm, Pitch 0.95mm, IPC Medium Density)
footprint LT-S6-6-SOT-23_L (SOT23, 6-Leads, Body 3x1.75mm, Pitch 0.95mm, IPC High Density)
footprint LT-S6-6-SOT-23_M (SOT23, 6-Leads, Body 3x1.75mm, Pitch 0.95mm, IPC Low Density)
pins: 1 BOOST "The BOOST pin is used to provide a drive voltage, higher than the input voltage, to the internal bipolar NPN power switch.", 2 GND (power), 3 FB (in), 4 ~{SHDN} (in), 5 VIN (power), 6 SW (power) "The SW pin is the output of the internal power switch. Connect this pin to the inductor, catch diode and boost capacitor."

## LT1933HDCB#PBF
designator U?
600 mA, 500 kHz Step-Down Switching Regulator, 6-pin SON (DCB-6), -40 to 150 degC, Pb-Free; Manufacturer: Linear Technology; PartNumber: LT1933HDCB#PBF; Number of Outputs: 1; PackageReference: DCB-6; PackageDescription: 6-Pin Plastic DFN, Body 2 x 3 mm, Pitch 0.5 mm; RoHS: TRUE
footprint LT-DCB-6_V (SON, 6-Leads, Body 3x2mm, Pitch 0.5mm, Thermal Pad 1.65x1.35mm)
pins: 1 BOOST "The BOOST pin is used to provide a drive voltage, higher than the input voltage, to the internal bipolar NPN power switch.", 2 VIN (power) "The VIN pin supplies current to the LT1933’s internal regulator and to the internal power switch. This pin must be locally bypassed.", 3 SW (power) "The SW pin is the output of the internal power switch. Connect this pin to the inductor, catch diode and boost capacitor.", 4 ~{SHDN} (in) "The S\H\D\N\ pin is used to put the LT1933 in shutdown mode. Tie to ground to shut down the LT1933. Tie to 2.3V or more for normal operation. If the shutdown feature is not used, tie this pin to the VIN pin. S\H\D\N\ also (See Datasheet)", 5 GND (power) "Tie the GND pin to a local ground plane below the LT1933 and the circuit components. Return the feedback divider to this pin.", 6 FB (in) "The LT1933 regulates its feedback pin to 1.245V. Connect the feedback resistor divider tap to this pin. Set the output voltage according to VOUT = 1.245V (1 + R1/R2). A good value for R2 is 10k.", 7 EP (power) "EXPOSED PAD (PIN 7) IS GND, MUST BE SOLDERED TO PCB"

## LT1933HDCB#TR
designator U?
600 mA, 500 kHz Step-Down Switching Regulator, 6-pin SON (DCB-6), -40 to 150 degC, Tape and Reel; Manufacturer: Linear Technology; PartNumber: LT1933HDCB#TR; Number of Outputs: 1; PackageReference: DCB-6; PackageDescription: 6-Pin Plastic DFN, Body 2 x 3 mm, Pitch 0.5 mm; RoHS: FALSE
footprint LT-DCB-6_V (SON, 6-Leads, Body 3x2mm, Pitch 0.5mm, Thermal Pad 1.65x1.35mm)
pins: 1 BOOST "The BOOST pin is used to provide a drive voltage, higher than the input voltage, to the internal bipolar NPN power switch.", 2 VIN (power) "The VIN pin supplies current to the LT1933’s internal regulator and to the internal power switch. This pin must be locally bypassed.", 3 SW (power) "The SW pin is the output of the internal power switch. Connect this pin to the inductor, catch diode and boost capacitor.", 4 ~{SHDN} (in) "The S\H\D\N\ pin is used to put the LT1933 in shutdown mode. Tie to ground to shut down the LT1933. Tie to 2.3V or more for normal operation. If the shutdown feature is not used, tie this pin to the VIN pin. S\H\D\N\ also (See Datasheet)", 5 GND (power) "Tie the GND pin to a local ground plane below the LT1933 and the circuit components. Return the feedback divider to this pin.", 6 FB (in) "The LT1933 regulates its feedback pin to 1.245V. Connect the feedback resistor divider tap to this pin. Set the output voltage according to VOUT = 1.245V (1 + R1/R2). A good value for R2 is 10k.", 7 EP (power) "EXPOSED PAD (PIN 7) IS GND, MUST BE SOLDERED TO PCB"

## LT1933HDCB#TRMPBF
designator U?
600 mA, 500 kHz Step-Down Switching Regulator, 6-pin SON (DCB-6), -40 to 150 degC, Pb-Free, Mini Tape and Reel; Manufacturer: Linear Technology; PartNumber: LT1933HDCB#TRMPBF; Number of Outputs: 1; PackageReference: DCB-6; PackageDescription: 6-Pin Plastic DFN, Body 2 x 3 mm, Pitch 0.5 mm; Supplier 1: Digi-Key; Supplier Part Number 1: LT1933HDCB#TRMPBF-ND; RoHS: TRUE
footprint LT-DCB-6_V (SON, 6-Leads, Body 3x2mm, Pitch 0.5mm, Thermal Pad 1.65x1.35mm)
pins: 1 BOOST "The BOOST pin is used to provide a drive voltage, higher than the input voltage, to the internal bipolar NPN power switch.", 2 VIN (power) "The VIN pin supplies current to the LT1933’s internal regulator and to the internal power switch. This pin must be locally bypassed.", 3 SW (power) "The SW pin is the output of the internal power switch. Connect this pin to the inductor, catch diode and boost capacitor.", 4 ~{SHDN} (in) "The S\H\D\N\ pin is used to put the LT1933 in shutdown mode. Tie to ground to shut down the LT1933. Tie to 2.3V or more for normal operation. If the shutdown feature is not used, tie this pin to the VIN pin. S\H\D\N\ also (See Datasheet)", 5 GND (power) "Tie the GND pin to a local ground plane below the LT1933 and the circuit components. Return the feedback divider to this pin.", 6 FB (in) "The LT1933 regulates its feedback pin to 1.245V. Connect the feedback resistor divider tap to this pin. Set the output voltage according to VOUT = 1.245V (1 + R1/R2). A good value for R2 is 10k.", 7 EP (power) "EXPOSED PAD (PIN 7) IS GND, MUST BE SOLDERED TO PCB"

## LT1933HDCB#TRPBF
designator U?
600 mA, 500 kHz Step-Down Switching Regulator, 6-pin SON (DCB-6), -40 to 150 degC, Pb-Free, Tape and Reel; Manufacturer: Linear Technology; PartNumber: LT1933HDCB#TRPBF; Number of Outputs: 1; PackageReference: DCB-6; PackageDescription: 6-Pin Plastic DFN, Body 2 x 3 mm, Pitch 0.5 mm; Supplier 1: Digi-Key; Supplier Part Number 1: LT1933HDCB#TRPBF-ND; RoHS: TRUE
footprint LT-DCB-6_V (SON, 6-Leads, Body 3x2mm, Pitch 0.5mm, Thermal Pad 1.65x1.35mm)
pins: 1 BOOST "The BOOST pin is used to provide a drive voltage, higher than the input voltage, to the internal bipolar NPN power switch.", 2 VIN (power) "The VIN pin supplies current to the LT1933’s internal regulator and to the internal power switch. This pin must be locally bypassed.", 3 SW (power) "The SW pin is the output of the internal power switch. Connect this pin to the inductor, catch diode and boost capacitor.", 4 ~{SHDN} (in) "The S\H\D\N\ pin is used to put the LT1933 in shutdown mode. Tie to ground to shut down the LT1933. Tie to 2.3V or more for normal operation. If the shutdown feature is not used, tie this pin to the VIN pin. S\H\D\N\ also (See Datasheet)", 5 GND (power) "Tie the GND pin to a local ground plane below the LT1933 and the circuit components. Return the feedback divider to this pin.", 6 FB (in) "The LT1933 regulates its feedback pin to 1.245V. Connect the feedback resistor divider tap to this pin. Set the output voltage according to VOUT = 1.245V (1 + R1/R2). A good value for R2 is 10k.", 7 EP (power) "EXPOSED PAD (PIN 7) IS GND, MUST BE SOLDERED TO PCB"

## LT1933HS6#PBF
designator U?
600 mA, 500 kHz Step-Down Switching Regulator, 6-pin SOT23 (S6-6), -40 to 150 degC, Pb-Free; Manufacturer: Linear Technology; PartNumber: LT1933HS6#PBF; Number of Outputs: 1; PackageReference: S6-6; PackageDescription: 6-Pin Plastic SOT-23, Body 1.625 x 2.9 mm, Pitch 0.95 mm; RoHS: TRUE
footprint LT-S6-6-SOT-23_N (SOT23, 6-Leads, Body 3x1.75mm, Pitch 0.95mm, IPC Medium Density)
footprint LT-S6-6-SOT-23_L (SOT23, 6-Leads, Body 3x1.75mm, Pitch 0.95mm, IPC High Density)
footprint LT-S6-6-SOT-23_M (SOT23, 6-Leads, Body 3x1.75mm, Pitch 0.95mm, IPC Low Density)
pins: 1 BOOST "The BOOST pin is used to provide a drive voltage, higher than the input voltage, to the internal bipolar NPN power switch.", 2 GND (power), 3 FB (in), 4 ~{SHDN} (in), 5 VIN (power), 6 SW (power) "The SW pin is the output of the internal power switch. Connect this pin to the inductor, catch diode and boost capacitor."

## LT1933HS6#TRMPBF
designator U?
600 mA, 500 kHz Step-Down Switching Regulator, 6-pin SOT23 (S6-6), -40 to 150 degC, Pb-Free, Mini Tape and Reel; Manufacturer: Linear Technology; PartNumber: LT1933HS6#TRMPBF; Number of Outputs: 1; PackageReference: S6-6; PackageDescription: 6-Pin Plastic SOT-23, Body 1.625 x 2.9 mm, Pitch 0.95 mm; Supplier 1: Digi-Key; Supplier Part Number 1: LT1933HS6#TRMPBF-ND; RoHS: TRUE
footprint LT-S6-6-SOT-23_N (SOT23, 6-Leads, Body 3x1.75mm, Pitch 0.95mm, IPC Medium Density)
footprint LT-S6-6-SOT-23_L (SOT23, 6-Leads, Body 3x1.75mm, Pitch 0.95mm, IPC High Density)
footprint LT-S6-6-SOT-23_M (SOT23, 6-Leads, Body 3x1.75mm, Pitch 0.95mm, IPC Low Density)
pins: 1 BOOST "The BOOST pin is used to provide a drive voltage, higher than the input voltage, to the internal bipolar NPN power switch.", 2 GND (power), 3 FB (in), 4 ~{SHDN} (in), 5 VIN (power), 6 SW (power) "The SW pin is the output of the internal power switch. Connect this pin to the inductor, catch diode and boost capacitor."

## LT1933HS6#TRPBF
designator U?
600 mA, 500 kHz Step-Down Switching Regulator, 6-pin SOT23 (S6-6), -40 to 150 degC, Pb-Free, Tape and Reel; Manufacturer: Linear Technology; PartNumber: LT1933HS6#TRPBF; Number of Outputs: 1; PackageReference: S6-6; PackageDescription: 6-Pin Plastic SOT-23, Body 1.625 x 2.9 mm, Pitch 0.95 mm; Supplier 1: Digi-Key; Supplier Part Number 1: LT1933HS6#TRPBF-ND; RoHS: TRUE
footprint LT-S6-6-SOT-23_N (SOT23, 6-Leads, Body 3x1.75mm, Pitch 0.95mm, IPC Medium Density)
footprint LT-S6-6-SOT-23_L (SOT23, 6-Leads, Body 3x1.75mm, Pitch 0.95mm, IPC High Density)
footprint LT-S6-6-SOT-23_M (SOT23, 6-Leads, Body 3x1.75mm, Pitch 0.95mm, IPC Low Density)
pins: 1 BOOST "The BOOST pin is used to provide a drive voltage, higher than the input voltage, to the internal bipolar NPN power switch.", 2 GND (power), 3 FB (in), 4 ~{SHDN} (in), 5 VIN (power), 6 SW (power) "The SW pin is the output of the internal power switch. Connect this pin to the inductor, catch diode and boost capacitor."

## LT1933IDCB
designator U?
600 mA, 500 kHz Step-Down Switching Regulator, 6-pin SON (DCB-6), -40 to 125 degC; Manufacturer: Linear Technology; PartNumber: LT1933IDCB; Number of Outputs: 1; PackageReference: DCB-6; PackageDescription: 6-Pin Plastic DFN, Body 2 x 3 mm, Pitch 0.5 mm; RoHS: FALSE
footprint LT-DCB-6_V (SON, 6-Leads, Body 3x2mm, Pitch 0.5mm, Thermal Pad 1.65x1.35mm)
pins: 1 BOOST "The BOOST pin is used to provide a drive voltage, higher than the input voltage, to the internal bipolar NPN power switch.", 2 VIN (power) "The VIN pin supplies current to the LT1933’s internal regulator and to the internal power switch. This pin must be locally bypassed.", 3 SW (power) "The SW pin is the output of the internal power switch. Connect this pin to the inductor, catch diode and boost capacitor.", 4 ~{SHDN} (in) "The S\H\D\N\ pin is used to put the LT1933 in shutdown mode. Tie to ground to shut down the LT1933. Tie to 2.3V or more for normal operation. If the shutdown feature is not used, tie this pin to the VIN pin. S\H\D\N\ also (See Datasheet)", 5 GND (power) "Tie the GND pin to a local ground plane below the LT1933 and the circuit components. Return the feedback divider to this pin.", 6 FB (in) "The LT1933 regulates its feedback pin to 1.245V. Connect the feedback resistor divider tap to this pin. Set the output voltage according to VOUT = 1.245V (1 + R1/R2). A good value for R2 is 10k.", 7 EP (power) "EXPOSED PAD (PIN 7) IS GND, MUST BE SOLDERED TO PCB"

## LT1933IDCB#PBF
designator U?
600 mA, 500 kHz Step-Down Switching Regulator, 6-pin SON (DCB-6), -40 to 125 degC, Pb-Free; Manufacturer: Linear Technology; PartNumber: LT1933IDCB#PBF; Number of Outputs: 1; PackageReference: DCB-6; PackageDescription: 6-Pin Plastic DFN, Body 2 x 3 mm, Pitch 0.5 mm; Supplier 1: Farnell; Supplier Part Number 1: 2294892; RoHS: TRUE
footprint LT-DCB-6_V (SON, 6-Leads, Body 3x2mm, Pitch 0.5mm, Thermal Pad 1.65x1.35mm)
pins: 1 BOOST "The BOOST pin is used to provide a drive voltage, higher than the input voltage, to the internal bipolar NPN power switch.", 2 VIN (power) "The VIN pin supplies current to the LT1933’s internal regulator and to the internal power switch. This pin must be locally bypassed.", 3 SW (power) "The SW pin is the output of the internal power switch. Connect this pin to the inductor, catch diode and boost capacitor.", 4 ~{SHDN} (in) "The S\H\D\N\ pin is used to put the LT1933 in shutdown mode. Tie to ground to shut down the LT1933. Tie to 2.3V or more for normal operation. If the shutdown feature is not used, tie this pin to the VIN pin. S\H\D\N\ also (See Datasheet)", 5 GND (power) "Tie the GND pin to a local ground plane below the LT1933 and the circuit components. Return the feedback divider to this pin.", 6 FB (in) "The LT1933 regulates its feedback pin to 1.245V. Connect the feedback resistor divider tap to this pin. Set the output voltage according to VOUT = 1.245V (1 + R1/R2). A good value for R2 is 10k.", 7 EP (power) "EXPOSED PAD (PIN 7) IS GND, MUST BE SOLDERED TO PCB"

## LT1933IDCB#TR
designator U?
600 mA, 500 kHz Step-Down Switching Regulator, 6-pin SON (DCB-6), -40 to 125 degC, Tape and Reel; Manufacturer: Linear Technology; PartNumber: LT1933IDCB#TR; Number of Outputs: 1; PackageReference: DCB-6; PackageDescription: 6-Pin Plastic DFN, Body 2 x 3 mm, Pitch 0.5 mm; RoHS: FALSE
footprint LT-DCB-6_V (SON, 6-Leads, Body 3x2mm, Pitch 0.5mm, Thermal Pad 1.65x1.35mm)
pins: 1 BOOST "The BOOST pin is used to provide a drive voltage, higher than the input voltage, to the internal bipolar NPN power switch.", 2 VIN (power) "The VIN pin supplies current to the LT1933’s internal regulator and to the internal power switch. This pin must be locally bypassed.", 3 SW (power) "The SW pin is the output of the internal power switch. Connect this pin to the inductor, catch diode and boost capacitor.", 4 ~{SHDN} (in) "The S\H\D\N\ pin is used to put the LT1933 in shutdown mode. Tie to ground to shut down the LT1933. Tie to 2.3V or more for normal operation. If the shutdown feature is not used, tie this pin to the VIN pin. S\H\D\N\ also (See Datasheet)", 5 GND (power) "Tie the GND pin to a local ground plane below the LT1933 and the circuit components. Return the feedback divider to this pin.", 6 FB (in) "The LT1933 regulates its feedback pin to 1.245V. Connect the feedback resistor divider tap to this pin. Set the output voltage according to VOUT = 1.245V (1 + R1/R2). A good value for R2 is 10k.", 7 EP (power) "EXPOSED PAD (PIN 7) IS GND, MUST BE SOLDERED TO PCB"